# Altium schematic symbol library BSB028N06NN3 G.SchLib: 1 symbol
Pins are listed as number, name and electrical type; pins without a type are passive.

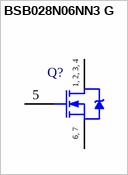
[diagram p0: symbol BSB028N06NN3 G]

## BSB028N06NN3 G
designator Q?
N-Channel OptiMOS 3 Power-MOSFET, 60 V VDS, 90 A ID, -40 to 150 degC, MG-WDSON-2-5, Reel, Green; Manufacturer: Infineon; PartNumber: BSB028N06NN3 G; Green: TRUE; ID (max): 90 A; IDpuls (max): 360 A; Polarity: N; Ptot (max): 78 W; QG: 108 nC; RDS (on) (max): 2.8 mOhm; Rth: 1 K/W; RthJA (max): 58 K/W; RthJC (max): 1.6 K/W; VDS (max): 60 V; VGS(th) (max): 4 V; VGS(th) (min): 2 V; DatasheetVersion: Rev. 2.0; PackageVersion: Jun-09; PackageReference: MG-WDSON-2-5; PackageDescription: 7-Pin Metal Green Very Very Thin Profile Dual Small Outline Non-Leaded Package; Supplier 1: Digi-Key; Supplier Part Number 1: BSB028N06NN3 GTR-ND; Supplier 2: Digi-Key; Supplier Part Number 2: BSB028N06NN3 GCT-ND; Supplier 3: Digi-Key; Supplier Part Number 3: BSB028N06NN3 GDKR-ND; Supplier 4: Mouser; Supplier Part Number 4: 726-BSB028N06NN3G; Halogen-free: TRUE; Packing: Reel; Mounting Technology: Surface Mount; ComponentLink1Description: Manufacturer URL; ComponentLink1URL: http://www.infineon.com/; ComponentLink2Description: Datasheet; ComponentLink2URL: http://www.infineon.com/dgdl/BSB028N06NN3_G_rev2.pdf?folderId=db3a30431441fb5d01148ca9f1be0e77&fileId=db3a30432e25b009012e29fda4e23838; ComponentLink3Description: Package Specification; ComponentLink3URL: http://www.infineon.com/dgdl/MG-WDSON-2-MN-Package_Overview.pdf?folderId=db3a30431f848401011fb830e5dc599d&fileId=db3a30431f848401011fb857204159b9
footprint INF-MG-WDSON-2-5_V (WDSON, 7-Leads, Body 5.5x4.93mm)
pins: 1 DRAIN, 2 DRAIN, 3 DRAIN, 4 DRAIN, 5 GATE, 6 SOURCE, 7 SOURCE
text: 1, 2, 3, 4; 6, 7